# EAGLE library part KONAMI_2MB_ROM (library Konami_2MB_ROM)
Konami 2MBit ROM
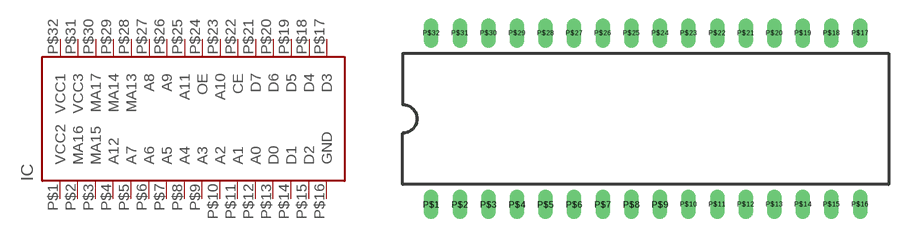
[diagram p0: symbol with the pads of DIP32; footprint DIP32]

Designator prefix IC

## KONAMI_2MB_ROMP  [DIP32]
P$1  VCC2
P$2  MA16
P$3  MA15
P$4  A12
P$5  A7
P$6  A6
P$7  A5
P$8  A4
P$9  A3
P$10  A2
P$11  A1
P$12  A0
P$13  D0
P$14  D1
P$15  D2
P$16  GND
P$17  D3
P$18  D4
P$19  D5
P$20  D6
P$21  D7
P$22  CE
P$23  A10
P$24  OE
P$25  A11
P$26  A9
P$27  A8
P$28  MA13
P$29  MA14
P$30  MA17
P$31  VCC3
P$32  VCC1

## Footprint DIP32 (pad centres in mm)
Dual In Line package type P
drill 0.8 long: P$1 -19.05,-7.62; P$2 -16.51,-7.62; P$3 -13.97,-7.62; P$4 -11.43,-7.62; P$5 -8.89,-7.62; P$6 -6.35,-7.62; P$7 -3.81,-7.62; P$8 -1.27,-7.62; P$9 1.27,-7.62; P$10 3.81,-7.62; P$11 6.35,-7.62; P$12 8.89,-7.62; P$13 11.43,-7.62; P$14 13.97,-7.62; P$15 16.51,-7.62; P$16 19.05,-7.62; P$17 19.05,7.62; P$18 16.51,7.62; P$19 13.97,7.62; P$20 11.43,7.62; P$21 8.89,7.62; P$22 6.35,7.62; P$23 3.81,7.62; P$24 1.27,7.62; P$25 -1.27,7.62; P$26 -3.81,7.62; P$27 -6.35,7.62; P$28 -8.89,7.62; P$29 -11.43,7.62; P$30 -13.97,7.62; P$31 -16.51,7.62; P$32 -19.05,7.62